# EAGLE library part TMG3993 (library Sensors _ Optical Sensors _ Light Sensors)
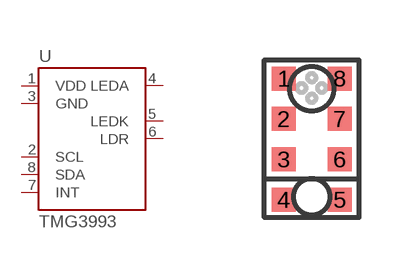
[diagram p0: symbol with the pads of TMG3993; footprint TMG3993]

Designator prefix U

## TMG3993  [TMG3993]
1  VDD
2  SCL
3  GND
4  LEDA
5  LEDK
6  LDR
7  INT
8  SDA

## Footprint TMG3993 (pad centres in mm)
smd 0.6 x 0.6: 1 -0.7,1.506; 2 -0.7,0.496; 3 -0.7,-0.514; 4 -0.7,-1.524; 5 0.7,-1.524; 6 0.7,-0.514; 7 0.7,0.496; 8 0.7,1.506